# Altium footprint library QUTMS_InductorLibrary.PcbLib: 2 footprints
Each footprint in its own frame and in the unit in brackets; x right, y up, seen from the top. Pads: shape width x height; smd on the part's side, far side on the other; paste and mask are expansions set on the pad; w line width, h text height; cw(c..) or ccw(c..) is an arc to the next point about the centre after c.
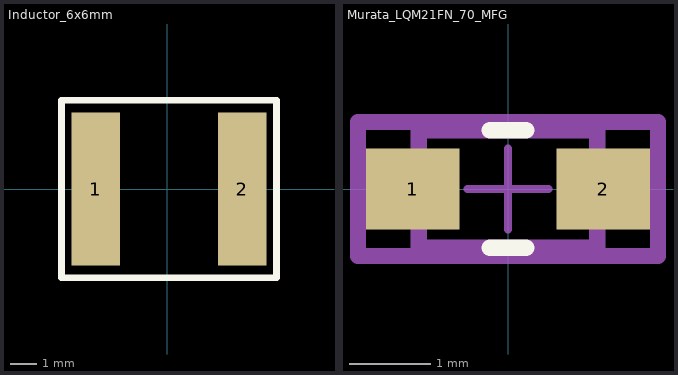
[diagram p0: the footprints below, top view; thin cyan lines are the x and y axes]

## Inductor_6x6mm [mm]
pads (2):
  rect 1.8x5.7 smd: 1(-2.667,0) 2(2.794,0)
Top Overlay:
  lines w0.254: -3.937,-3.302 4.064,-3.302 4.064,3.302 -3.937,3.302 -3.937,-3.302
3D body "74404064221_WE-LQS.stp": height 4.56, standoff 0.06, extent -3,-3 3,3

## Murata_LQM21FN_70_MFG [mm]
pads (2):
  rect 1.15x1 smd paste+0 mask+0: 1(-1.175,0) 2(1.175,0)
Top Overlay:
  lines w0.2: -0.225,-0.725 0.225,-0.725 ; -0.225,0.725 0.225,0.725
Mechanical 10:
  lines w0.2: -1.85,-0.825 -1.85,0.825 1.85,0.825 1.85,-0.825 -1.85,-0.825
  text ".Designator" at 0,0.188 h1
Mechanical 12:
  lines w0.2: -1.1,-0.725 -1.1,0.725 1.1,0.725 1.1,-0.725 -1.1,-0.725
Mechanical 15:
  lines w0.1: -0.5,0 0.5,0 ; 0,-0.5 0,0.5
  lines w0.2: -1.85,-0.825 -1.85,0.825 1.85,0.825 1.85,-0.825 -1.85,-0.825
3D body "Ind_Murata_LQM21FN100M70L_eec.STEP": height 0.25, standoff 0, extent -1.85,-0.825 1.85,0.825